# Altium footprint library PCB - LEADLESS - LGA - ST 12-pin.PcbLib: 1 footprints
Each footprint in its own frame and in the unit in brackets; x right, y up, seen from the top. Pads: shape width x height; smd on the part's side, far side on the other; paste and mask are expansions set on the pad; w line width, h text height; cw(c..) or ccw(c..) is an arc to the next point about the centre after c.
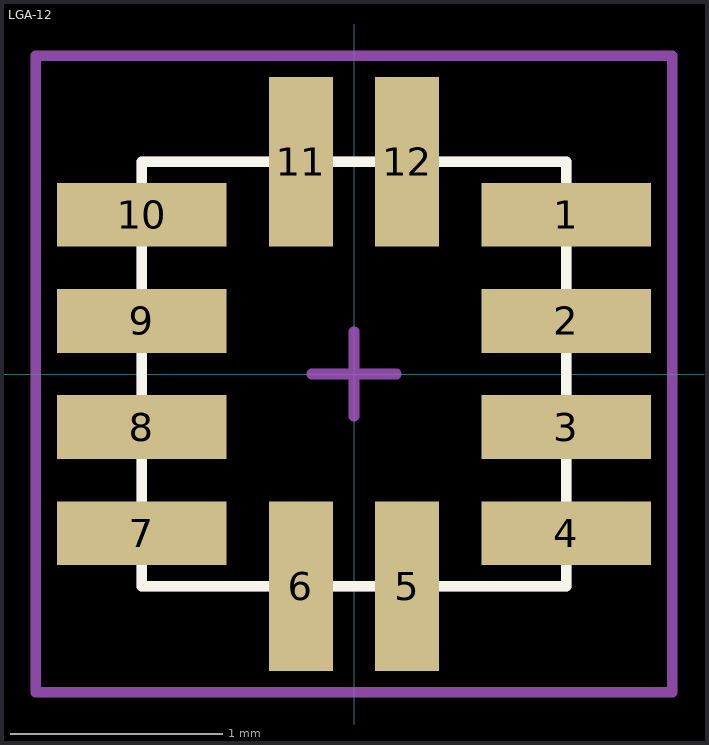
[diagram p0: the footprint, top view; thin cyan lines are the x and y axes]

## LGA-12 [mm]
pads (12):
  rect 0.8x0.3 smd mask+0.05: 1(1,0.75) 2(1,0.25) 3(1,-0.25) 4(1,-0.75) 7(-1,-0.75) 8(-1,-0.25) 9(-1,0.25) 10(-1,0.75)
  rect 0.3x0.8 smd mask+0.05: 5(0.25,-1) 6(-0.25,-1) 11(-0.25,1) 12(0.25,1)
Top Overlay:
  lines w0.05: -1,-1 -1,1 -0.7,1 1,1 1,-1 -1,-1
  text "." at 0.9,0.9 h1
Top Assembly:
  lines w0.05: -1,-1 -1,1 1,1 1,-1 -1,-1
Top Courtyard:
  lines w0.05: -1.5,-1.5 1.5,-1.5 1.5,1.5 -1.5,1.5 -1.5,-1.5
Top Component Center:
  lines w0.05: -0.2,0 0.2,0 ; 0,-0.2 0,0.2
3D body "User Library-LGA12_2x2x1.step": height 1, standoff 0, extent -1,-1 1,1